# Altium footprint library CKST0605.PcbLib: 1 footprints
Each footprint in its own frame and in the unit in brackets; x right, y up, seen from the top. Pads: shape width x height; smd on the part's side, far side on the other; paste and mask are expansions set on the pad; w line width, h text height; cw(c..) or ccw(c..) is an arc to the next point about the centre after c.
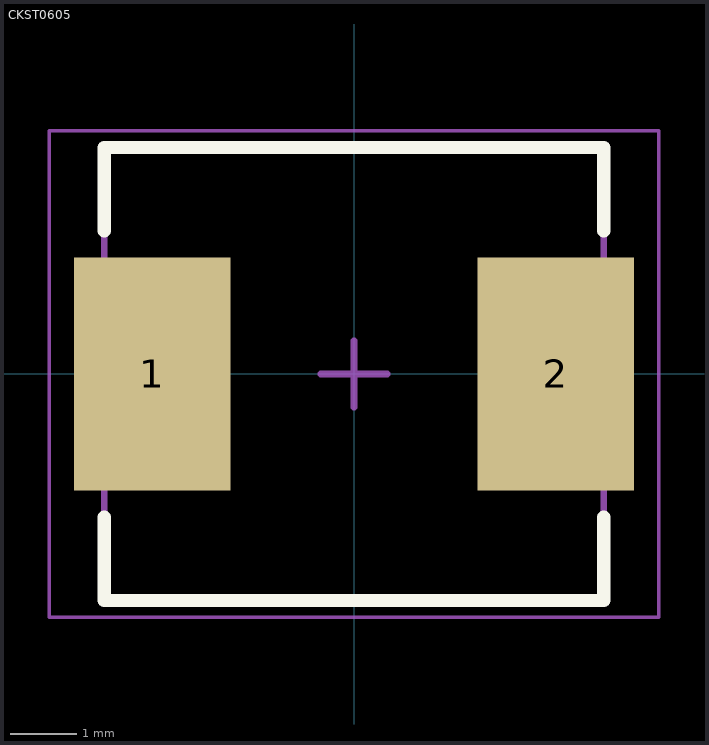
[diagram p0: the footprint, top view; thin cyan lines are the x and y axes]

## CKST0605 [mm]
pads (2):
  rect 2.35x3.5 smd: 1(-3.025,0) 2(3.025,0)
Top Overlay:
  lines w0.2: -3.75,-2.15 -3.75,-3.4 3.75,-3.4 3.75,-2.15 ; -3.75,2.15 -3.75,3.4 3.75,3.4 3.75,2.15
Mechanical 13:
  lines w0.1: -3.75,-3.4 3.75,-3.4 3.75,3.4 -3.75,3.4 -3.75,-3.4
Mechanical 15:
  lines w0.05: -4.575,-3.65 4.575,-3.65 4.575,3.65 -4.575,3.65 -4.575,-3.65
  lines w0.1: -0.5,0 0.5,0 ; 0,-0.5 0,0.5
3D body "INDM7566X50N.step": height 5, standoff 0, extent -3.97,-3.4 3.97,3.4